# Altium schematic symbol library AG.Electromechanical.SchLib: 8 symbols
Pins are listed as number, name and electrical type; pins without a type are passive.

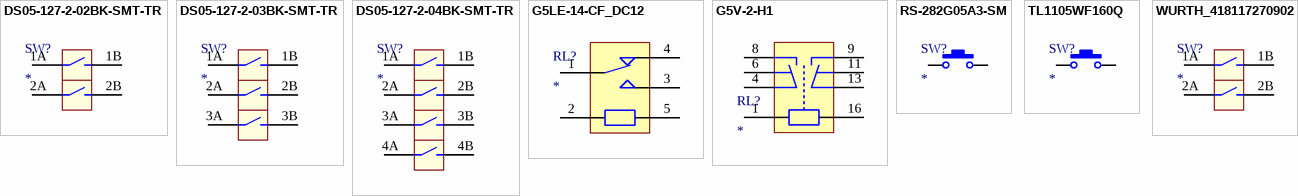
[diagram p0: symbols DS05-127-2-02BK-SMT-TR to WURTH_418117270902]

## DS05-127-2-02BK-SMT-TR
designator SW?
DIP SWITCH SPST 1.27 PITCH FL; Supplier Part No: 2223-DS05-127-2-02BK-SMT-CT-ND; Supplier Link: https://www.digikey.com/en/products/detail/cui-devices/DS05-127-2-02BK-SMT-TR/11310934; Supplier: DigiKey
footprint DIP_SWITCH_2POS_1.27mm (DIP-Switch 2 Positions Pitch 1.27mm DigiKey Part No: 2223-DS05-127-2-02BK-SMT-CT-ND)
pins: 1A, 1B, 2A, 2B

## DS05-127-2-03BK-SMT-TR
designator SW?
DIP SWITCH SPST 1.27 PITCH FL 3POS; Supplier: DigiKey; Supplier Part No: DS05-127-2-03BK-SMT-TR; Supplier Link: https://www.digikey.com/en/products/detail/cui-devices/DS05-127-2-03BK-SMT-TR/11310956
footprint DIP_SWITCH_3POS_1.27mm (DIP-Switch 4 Positions Pitch 1.27mm DigiKey Part No: 2223-DS05-127-2-03BK-SMT-TR-ND)
pins: 1A, 1B, 2A, 2B, 3A, 3B

## DS05-127-2-04BK-SMT-TR
designator SW?
DIP SWITCH SPST 1.27 PITCH FL; Supplier: DigiKey; Supplier Part No: 2223-DS05-127-2-04BK-SMT-CT-ND; Supplier Link: https://www.digikey.com/en/products/detail/cui-devices/DS05-127-2-04BK-SMT-TR/11310888
footprint DIP_SWITCH_4POS_1.27mm (DIP-Switch 4 Positions Pitch 1.27mm DigiKey Part No: 2223-DS05-127-2-04BK-SMT-CT-ND)
pins: 1A, 1B, 2A, 2B, 3A, 3B, 4A, 4B

## G5LE-14-CF_DC12
designator RL?
RELAY GEN PURPOSE SPDT 10A 12V; PartNo: Z5216-ND; Manufacturer: Omron Electronics Inc-EMC Div; ProductNumber: G5LE-14-CF DC12; DetailedDescription: General Purpose Relay SPDT (1 Form C) 12VDC Coil Through Hole; ShippingPackage: Tube; CoilType: Non-Latching; RelayType: General Purpose; CoilResistance: 360 Ohm; SealRating: Full; ContactForm: SPDT (1 Form C); Supplier: DigiKey; URL: https://www.digikey.com/en/products/detail/omron-electronics-inc-emc-div/G5LE-14-CF-DC12/368993; UnitPrice: $1.69; CoilVoltage: 12V; ContactRating: 10A
footprint G5LE-14 (RELAY GEN PURPOSE SPDT)
pins: 1 COM, 2 SW2, 3 NO, 4 NC, 5 SW1

## G5V-2-H1
designator RL?
RELAY GEN PURPOSE DPDT 1A 5VDC; Manufacturer: Omron; Manufacturer Part No: G5V-2-H1 DC5; Compatible Model: TIANBO HJR1-2C; Alternative Supplier Link: https://belchip.by/product/?selected_product=32041; Alternative Supplier: Belchip; Alternative Supplier Part No: 32041; Mounting Technology: THT; Supplier Part No: Z108-ND; Supplier Link: https://www.digikey.com/en/products/detail/omron-electronics-inc-emc-div/G5V-2-H1-DC5/277844; Supplier: DigiKey
footprint G5V-2-H1 (OMRON Low Signal Relay DPDT [ Compatible with HJR1-2C ])
pins: 1 SW, 4 COM1, 6 NC1, 8 NO1, 9 NO2, 11 NC2, 13 COM2, 16 SW

## RS-282G05A3-SM
designator SW?
SWITCH TACTILE SPST-NO 0.05A 12V; Manufacturer: C&K; Product Number: RS-282G05A3-SM RT; Supplier: DigiKey; Supplier Link: https://www.digikey.com/en/products/detail/c-k/RS-282G05A3-SM-RT/2747190; Supplier Part No: CKN10384CT-ND; Mounting Technology: SMT; Package: Non-Standard
footprint RS-282G05A3-SM (SWITCH TACTILE SPST-NO 0.05A 12V)
pins: 1, 2

## TL1105WF160Q
designator SW?
SWITCH TACTILE SPST-NO 0.05A 12V; Manufacturer: E-Switch; Manufacturer Part No: TL1105WF160Q; Compatible Model: KLS7-TS6606-7.0-180; Supplier: DigiKey; Supplier Part No: EG1835-ND; Supplier Link: https://www.digikey.com/en/products/detail/e-switch/TL1105WF160Q/16756; Alternate Supplier: Chipdip; Alternate Supplier Link: https://www.chipdip.by/product/kls7-ts6606-7.0-180-tc-0206; Alternate Supplier Part No: 9000336828; Mounting Technology: THT
footprint TL1105WF (E-Switch TL1105 Right Angle 6x6 Tact Switch Series (H=7mm) [ Compatible with KLS7-TS6606 ])
pins: 1, 2

## WURTH_418117270902
designator SW?
DIP SWITCH SPST 2.54 PITCH RA; Manufacturer: Wurth Elektronik; Product Number: 418117270902; Compatible Product: DS1040-02RN; Mounting Technology: SMT; Package: DIP-4; Supplier: DigiKey; Supplier Link: https://www.digikey.com/en/products/detail/w%C3%BCrth-elektronik/418117270902/3174485; Supplier Part No: 732-3832-5-ND; Alternative Supplier: Chipdip; Alternative Supplier Part No: 9000190955; Alternative Supplier Link: https://www.chipdip.by/product/ds1040-02rn
footprint WURTH_418117270902 (DIP SWITCH SPST 2.54 PITCH RA)
pins: 1A, 1B, 2A, 2B